# EAGLE library part MICROCHIP_RN2483 (library lorawan-modules)
Microchip LoRaWAN module RN2483 <https://www.microchip.com/wwwproducts/en/RN2483> is the 868 MHz one and RN2903 <https://www.microchip.com/wwwproducts/en/RN2903> is the 915 MHz one
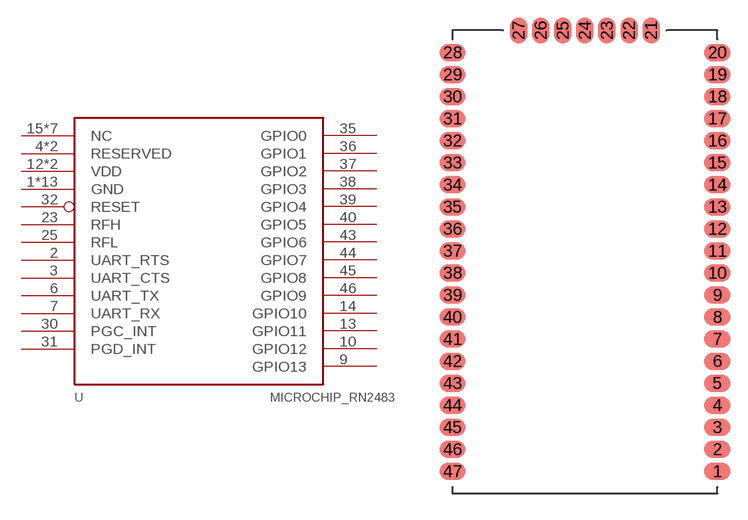
[diagram p2: symbol with the pads of MICROCHIP_RN2483; footprint MICROCHIP_RN2483]

Designator prefix -

## MICROCHIP_RN2483 (HEIGHT: 3; LENGT: 26.7; WIDTH: 17.8)  [MICROCHIP_RN2483]
1  GND  pwr
2  UART_RTS  out
3  UART_CTS  in
4  RESERVED  nc
5  RESERVED  nc
6  UART_TX  out
7  UART_RX  in
8  GND  pwr
9  GPIO13
10  GPIO12
11  GND  pwr
12  VDD  pwr
13  GPIO11
14  GPIO10
15  NC  nc
16  NC  nc
17  NC  nc
18  NC  nc
19  NC  nc
20  GND  pwr
21  GND  pwr
22  GND  pwr
23  RFH
24  GND  pwr
25  RFL
26  GND  pwr
27  GND  pwr
28  GND  pwr
29  NC  nc
30  PGC_INT
31  PGD_INT
32  RESET  in
33  GND  pwr
34  VDD  pwr
35  GPIO0
36  GPIO1
37  GPIO2
38  GPIO3
39  GPIO4
40  GPIO5
41  GND  pwr
42  NC  nc
43  GPIO6
44  GPIO7
45  GPIO8
46  GPIO9
47  GND  pwr

## Footprint MICROCHIP_RN2483 (pad centres in mm)
smd 1.524 x 1.016: 1 15.24,1.27; 2 15.24,2.54; 3 15.24,3.81; 4 15.24,5.08; 5 15.24,6.35; 6 15.24,7.62; 7 15.24,8.89; 8 15.24,10.16; 9 15.24,11.43; 10 15.24,12.7; 11 15.24,13.97; 12 15.24,15.24; 13 15.24,16.51; 14 15.24,17.78; 15 15.24,19.05; 16 15.24,20.32; 17 15.24,21.59; 18 15.24,22.86; 19 15.24,24.13; 20 15.24,25.4; 28 0,25.4; 29 0,24.13; 30 0,22.86; 31 0,21.59; 32 0,20.32; 33 0,19.05; 34 0,17.78; 35 0,16.51; 36 0,15.24; 37 0,13.97; 38 0,12.7; 39 0,11.43; 40 0,10.16; 41 0,8.89; 42 0,7.62; 43 0,6.35; 44 0,5.08; 45 0,3.81; 46 0,2.54; 47 0,1.27
smd 1.016 x 1.524: 21 11.43,26.67; 22 10.16,26.67; 23 8.89,26.67; 24 7.62,26.67; 25 6.35,26.67; 26 5.08,26.67; 27 3.81,26.67